# EAGLE library part MIC4606-2YML-TR (library MIC4606-2YML-TR)
Gate Drivers 85V Full Bridge FET Driver Source: Datasheet <http://www.microchip.com/mymicrochip/filehandler.aspx?ddocname=en579238>
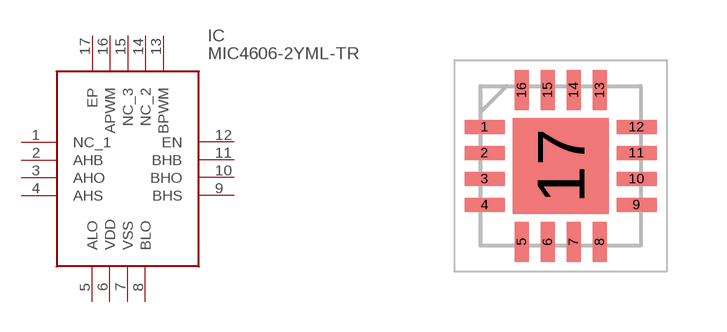
[diagram p0: symbol with the pads of QFN65P400X400X90-17N; footprint QFN65P400X400X90-17N]

Designator prefix IC

## MIC4606-2YML-TR (Description: Gate Drivers 85V Full Bridge FET Driver; Height: 0.9mm; Manufacturer_Name: Microchip; Manufacturer_Part_Number: MIC4606-2YML-TR; Mouser_Part_Number: 998-MIC4606-2YMLTR; Mouser_Price-Stock: https://www.mouser.co.uk/ProductDetail/Microchip-Technology/MIC4606-2YML-TR?qs=U6T8BxXiZAXbBSyJRhixLg%3D%3D)  [QFN65P400X400X90-17N]
1  NC_1
2  AHB
3  AHO
4  AHS
5  ALO
6  VDD
7  VSS
8  BLO
9  BHS
10  BHO
11  BHB
12  EN
13  BPWM
14  NC_2
15  NC_3
16  APWM
17  EP

## Footprint QFN65P400X400X90-17N (pad centres in mm)
vqfn4*4
smd 1 x 0.35: 1 -1.9,0.975; 2 -1.9,0.325; 3 -1.9,-0.325; 4 -1.9,-0.975; 9 1.9,-0.975; 10 1.9,-0.325; 11 1.9,0.325; 12 1.9,0.975
smd 0.35 x 1: 5 -0.975,-1.9; 6 -0.325,-1.9; 7 0.325,-1.9; 8 0.975,-1.9; 13 0.975,1.9; 14 0.325,1.9; 15 -0.325,1.9; 16 -0.975,1.9
smd 2.4 x 2.4: 17 0,0